# EAGLE library part ATF1504-44 (library newchips)
Atmel 64-macrocell CPLD
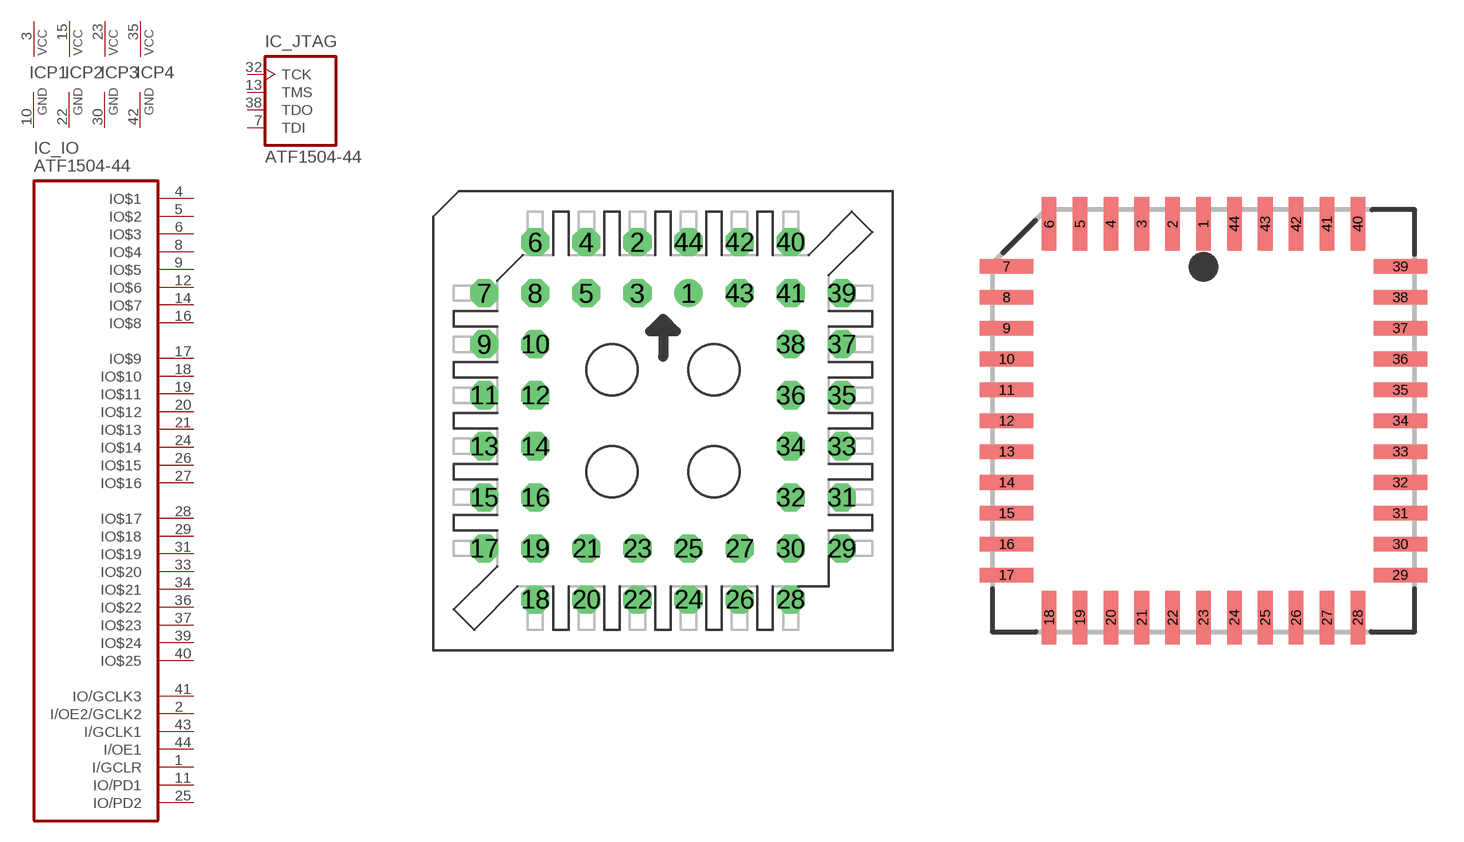
[diagram p1: symbol with the pads of PLCC-S44; footprints PLCC-S44, PLCC44]

Designator prefix IC; gates _IO=ATF1504 P1=PWRN P2=PWRN P3=PWRN P4=PWRN _JTAG=JTAG

## ATF1504-44J-S  [PLCC-S44]
1  _IO:I/GCLR  in
2  _IO:I/OE2/GCLK2  in
3  P1:VCC  pwr
4  _IO:IO$1
5  _IO:IO$2
6  _IO:IO$3
7  _JTAG:TDI  in
8  _IO:IO$4
9  _IO:IO$5
10  P1:GND  pwr
11  _IO:IO/PD1
12  _IO:IO$6
13  _JTAG:TMS  in
14  _IO:IO$7
15  P2:VCC  pwr
16  _IO:IO$8
17  _IO:IO$9
18  _IO:IO$10
19  _IO:IO$11
20  _IO:IO$12
21  _IO:IO$13
22  P2:GND  pwr
23  P3:VCC  pwr
24  _IO:IO$14
25  _IO:IO/PD2
26  _IO:IO$15
27  _IO:IO$16
28  _IO:IO$17
29  _IO:IO$18
30  P3:GND  pwr
31  _IO:IO$19
32  _JTAG:TCK  in
33  _IO:IO$20
34  _IO:IO$21
35  P4:VCC  pwr
36  _IO:IO$22
37  _IO:IO$23
38  _JTAG:TDO  out
39  _IO:IO$24
40  _IO:IO$25
41  _IO:IO/GCLK3
42  P4:GND  pwr
43  _IO:I/GCLK1  in
44  _IO:I/OE1  in

## ATF1504-44J  [PLCC44]
Pads as for PLCC-S44

## ATF1504-44A  [TQFP44]
1  _JTAG:TDI  in
2  _IO:IO$1
3  _IO:IO$2
4  P1:GND  pwr
5  _IO:IO/PD1
6  _IO:IO$3
7  _JTAG:TMS  in
8  _IO:IO$4
9  P1:VCC  pwr
10  _IO:IO$5
11  _IO:IO$6
12  _IO:IO$7
13  _IO:IO$8
14  _IO:IO$9
15  _IO:IO$10
16  P2:GND  pwr
17  P2:VCC  pwr
18  _IO:IO$11
19  _IO:IO/PD2
20  _IO:IO$12
21  _IO:IO$13
22  _IO:IO$14
23  _IO:IO$15
24  P3:GND  pwr
25  _IO:IO$16
26  _JTAG:TCK  in
27  _IO:IO$17
28  _IO:IO$18
29  P3:VCC  pwr
30  _IO:IO$19
31  _IO:IO$20
32  _JTAG:TDO  out
33  _IO:IO$21
34  _IO:IO$22
35  _IO:IO/GCLK3
36  P4:GND  pwr
37  _IO:I/GCLK1  in
38  _IO:I/OE1  in
39  _IO:I/GCLR  in
40  _IO:I/OE2/GCLK2  in
41  P4:VCC  pwr
42  _IO:IO$23
43  _IO:IO$24
44  _IO:IO$25

## Footprint PLCC-S44 (pad centres in mm)
drill 0.813 pad 1.397 round: 1 1.27,6.35
drill 0.813 pad 1.397 octagon: 2 -1.27,8.89; 3 -1.27,6.35; 4 -3.81,8.89; 5 -3.81,6.35; 6 -6.35,8.89; 7 -8.89,6.35; 8 -6.35,6.35; 9 -8.89,3.81; 10 -6.35,3.81; 11 -8.89,1.27; 12 -6.35,1.27; 13 -8.89,-1.27; 14 -6.35,-1.27; 15 -8.89,-3.81; 16 -6.35,-3.81; 17 -8.89,-6.35; 18 -6.35,-8.89; 19 -6.35,-6.35; 20 -3.81,-8.89; 21 -3.81,-6.35; 22 -1.27,-8.89; 23 -1.27,-6.35; 24 1.27,-8.89; 25 1.27,-6.35; 26 3.81,-8.89; 27 3.81,-6.35; 28 6.35,-8.89; 29 8.89,-6.35; 30 6.35,-6.35; 31 8.89,-3.81; 32 6.35,-3.81; 33 8.89,-1.27; 34 6.35,-1.27; 35 8.89,1.27; 36 6.35,1.27; 37 8.89,3.81; 38 6.35,3.81; 39 8.89,6.35; 40 6.35,8.89; 41 6.35,6.35; 42 3.81,8.89; 43 3.81,6.35; 44 1.27,8.89

## Footprint PLCC44 (pad centres in mm)
Plastic Leaded Chip Carrier
smd 0.6 x 2.2: 1 0,8.1; 2 -1.27,8.1; 3 -2.54,8.1; 4 -3.81,8.1; 5 -5.08,8.1; 6 -6.35,8.1; 18 -6.35,-8.1; 19 -5.08,-8.1; 20 -3.81,-8.1; 21 -2.54,-8.1; 22 -1.27,-8.1; 23 0,-8.1; 24 1.27,-8.1; 25 2.54,-8.1; 26 3.81,-8.1; 27 5.08,-8.1; 28 6.35,-8.1; 40 6.35,8.1; 41 5.08,8.1; 42 3.81,8.1; 43 2.54,8.1; 44 1.27,8.1
smd 2.2 x 0.6: 7 -8.1,6.35; 8 -8.1,5.08; 9 -8.1,3.81; 10 -8.1,2.54; 11 -8.1,1.27; 12 -8.1,0; 13 -8.1,-1.27; 14 -8.1,-2.54; 15 -8.1,-3.81; 16 -8.1,-5.08; 17 -8.1,-6.35; 29 8.1,-6.35; 30 8.1,-5.08; 31 8.1,-3.81; 32 8.1,-2.54; 33 8.1,-1.27; 34 8.1,0; 35 8.1,1.27; 36 8.1,2.54; 37 8.1,3.81; 38 8.1,5.08; 39 8.1,6.35

## Footprint TQFP44 (pad centres in mm)
Thin Quad Flat Package
smd 1.5 x 0.5: 1 -5.8,4; 2 -5.8,3.2; 3 -5.8,2.4; 4 -5.8,1.6; 5 -5.8,0.8; 6 -5.8,0; 7 -5.8,-0.8; 8 -5.8,-1.6; 9 -5.8,-2.4; 10 -5.8,-3.2; 11 -5.8,-4; 23 5.8,-4; 24 5.8,-3.2; 25 5.8,-2.4; 26 5.8,-1.6; 27 5.8,-0.8; 28 5.8,0; 29 5.8,0.8; 30 5.8,1.6; 31 5.8,2.4; 32 5.8,3.2; 33 5.8,4
smd 0.5 x 1.5: 12 -4,-5.8; 13 -3.2,-5.8; 14 -2.4,-5.8; 15 -1.6,-5.8; 16 -0.8,-5.8; 17 0,-5.8; 18 0.8,-5.8; 19 1.6,-5.8; 20 2.4,-5.8; 21 3.2,-5.8; 22 4,-5.8; 34 4,5.8; 35 3.2,5.8; 36 2.4,5.8; 37 1.6,5.8; 38 0.8,5.8; 39 0,5.8; 40 -0.8,5.8; 41 -1.6,5.8; 42 -2.4,5.8; 43 -3.2,5.8; 44 -4,5.8